# Altium schematic symbol library Relay.SchLib: 1 symbol
Pins are listed as number, name and electrical type; pins without a type are passive.

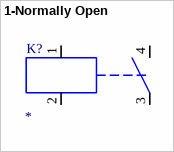
[diagram p0: symbol 1-Normally Open]

## 1-Normally Open
designator K?  (value not drawn)
Value: *
pins: 1, 2, 3, 4